# EAGLE library part DG3XX-08 (library degson)
DG350-3.5-08P DG306-5.0-08P
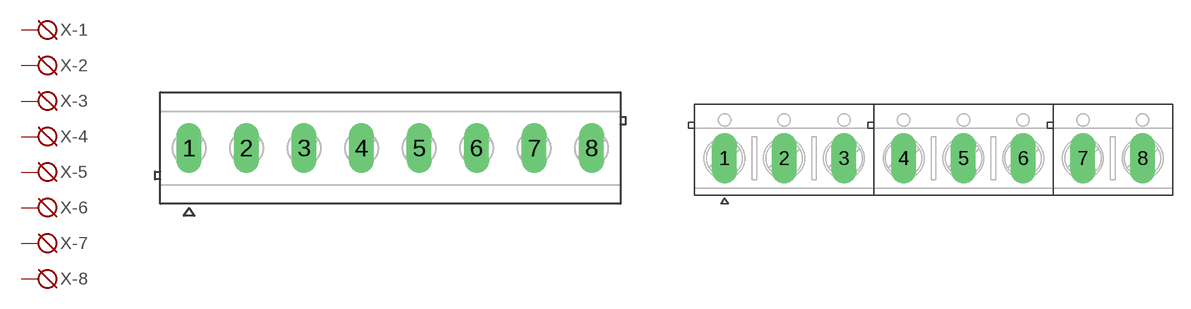
[diagram p2: symbol with the pads of DG350-3.5-08P; footprints DG350-3.5-08P, DG306-5.0-08P]

Designator prefix X; gates -1=KL -2=KL -3=KL -4=KL -5=KL -6=KL -7=KL -8=KL

## DG3XX-08-3.5  [DG350-3.5-08P]
1  -1:KL  pas
2  -2:KL  pas
3  -3:KL  pas
4  -4:KL  pas
5  -5:KL  pas
6  -6:KL  pas
7  -7:KL  pas
8  -8:KL  pas

## DG3XX-08-5.0  [DG306-5.0-08P]
Pads as for DG350-3.5-08P

## Footprint DG350-3.5-08P (pad centres in mm)
drill 1 long: 1 -12.25,0; 2 -8.75,0; 3 -5.25,0; 4 -1.75,0; 5 1.75,0; 6 5.25,0; 7 8.75,0; 8 12.25,0

## Footprint DG306-5.0-08P (pad centres in mm)
drill 1.4 long: 1 -17.5,0; 2 -12.5,0; 3 -7.5,0; 4 -2.5,0; 5 2.5,0; 6 7.5,0; 7 12.5,0; 8 17.5,0